# Altium schematic symbol library TI SN74AVC4T774 RSV.SchLib: 1 symbol
Pins are listed as number, name and electrical type; pins without a type are passive.

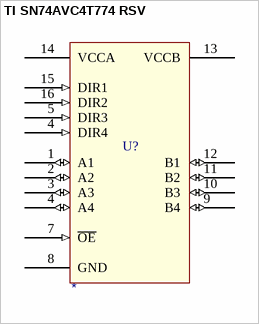
[diagram p0: symbol TI SN74AVC4T774 RSV]

## TI SN74AVC4T774 RSV
designator U?
Part Number: *
pins: 1 A1 (io), 2 A2 (io), 3 A3 (io), 4 A4 (io), 4 DIR4 (in), 5 DIR3 (in), 7 ~{OE} (in) "Suppled by VCCA. Tie to VCCA throug a pullup resistor to insure high-impedance state of the outputs (Bx) during power-up or power-down.", 8 GND (power), 9 B4 (io), 10 B3 (io), 11 B2 (io), 12 B1 (io), 13 VCCB (power), 14 VCCA (power), 15 DIR1 (in), 16 DIR2 (in)